# Altium footprint library avr128 curiosity nano.PcbLib: 1 footprints
Each footprint in its own frame and in the unit in brackets; x right, y up, seen from the top. Pads: shape width x height; smd on the part's side, far side on the other; paste and mask are expansions set on the pad; w line width, h text height; cw(c..) or ccw(c..) is an arc to the next point about the centre after c.
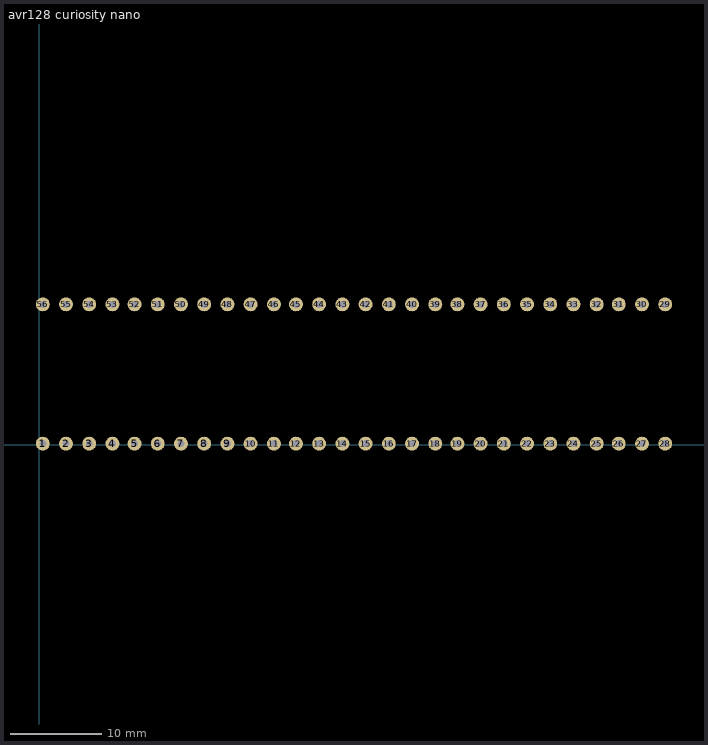
[diagram p0: the footprint, top view; thin cyan lines are the x and y axes]

## avr128 curiosity nano [mil]
pads (56):
  round 60 hole 30: 1(15,5) 2(115,5) 3(215,5) 4(315,5) 5(410,5) 6(510,5) 7(610,5) 8(710,5) 9(810,5) 10(910,5) 11(1010,5) 12(1105,5) 13(1205,5) 14(1305,5) 15(1405,5) 16(1505,5) 17(1605,5) 18(1705,5) 19(1800,5) 20(1900,5) 21(2000,5) 22(2100,5) 23(2200,5) 24(2300,5) 25(2400,5) 26(2495,5) 27(2595,5) 28(2695,5) 29(2695,605) 30(2595,605) 31(2495,605) 32(2400,605) 33(2300,605) 34(2200,605) 35(2100,605) 36(2000,605) 37(1900,605) 38(1800,605) 39(1705,605) 40(1605,605) 41(1505,605) 42(1405,605) 43(1305,605) 44(1205,605) 45(1105,605) 46(1010,605) 47(910,605) 48(810,605) 49(710,605) 50(610,605) 51(510,605) 52(410,605) 53(315,605) 54(215,605) 55(115,605) 56(15,605)
3D body "AVR128DB48_Curiosity_Nano_release_rev2.step": height 236.61, standoff 18.89, extent -315,-100 3004.65,700